# Altium footprint library SamacSys.PcbLib: 17 footprints (part 1 of 2)
Each footprint in its own frame and in the unit in brackets; x right, y up, seen from the top. Pads: shape width x height; smd on the part's side, far side on the other; paste and mask are expansions set on the pad; w line width, h text height; cw(c..) or ccw(c..) is an arc to the next point about the centre after c.
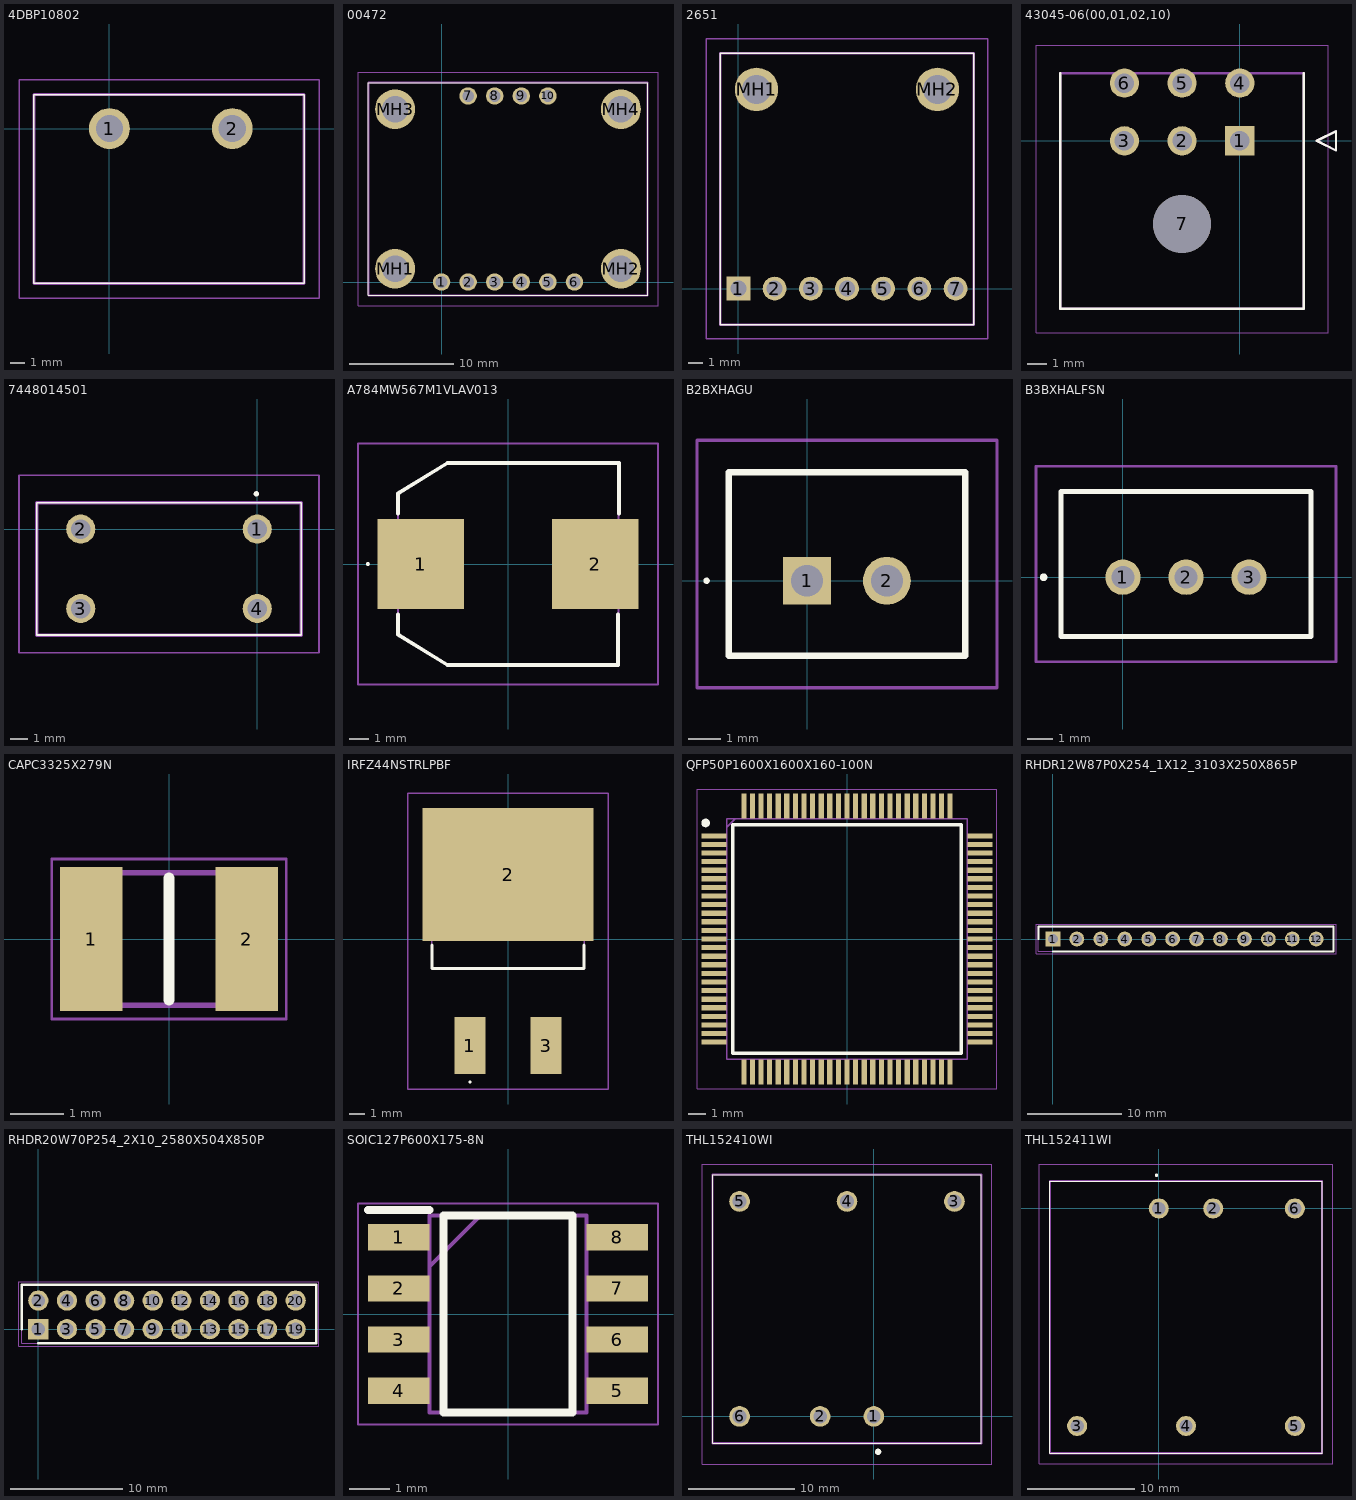
[diagram p0: the footprints below, top view; thin cyan lines are the x and y axes]

## 4DBP10802 [mm]
pads (2):
  round 2.744 hole 1.829: 1(0,0) 2(8.255,0)
Top Overlay:
  lines w0.1: -5.08,-10.414 -5.08,2.286 13.081,2.286 13.081,-10.414 -5.08,-10.414
Mechanical 13:
  lines w0.2: -5.08,-10.414 -5.08,2.286 13.081,2.286 13.081,-10.414 -5.08,-10.414
Mechanical 15:
  lines w0.1: -6.08,-11.414 -6.08,3.286 14.081,3.286 14.081,-11.414 -6.08,-11.414
3D body "4DB-P108-02.stp": height 14.38, standoff -4.16, extent -5.081,-10.41 13.08,2.29

## 00472 [mm]
pads (14):
  round 1.665 hole 1.11: 1(0,0) 2(2.54,0) 3(5.08,0) 4(7.62,0) 5(10.16,0) 6(12.7,0) 7(2.54,17.78) 8(5.08,17.78) 9(7.62,17.78) 10(10.16,17.78)
  round 3.81 hole 2.54: MH1(-4.445,1.27) MH2(17.145,1.27) MH3(-4.445,16.51) MH4(17.145,16.51)
Top Overlay:
  lines w0.1: -6.985,-1.27 -6.985,19.05 19.685,19.05 19.685,-1.27 -6.985,-1.27
Mechanical 13:
  lines w0.2: -6.985,-1.27 -6.985,19.05 19.685,19.05 19.685,-1.27 -6.985,-1.27
Mechanical 15:
  lines w0.1: -7.985,-2.27 -7.985,20.05 20.685,20.05 20.685,-2.27 -7.985,-2.27
3D body "00472.stp": height 2.1, standoff -5, extent -6.985,-1.27 19.685,19.05

## 2651 [mm]
pads (9):
  rect 1.665x1.665 hole 1.11: 1(0,0)
  round 1.665 hole 1.11: 2(2.54,0) 3(5.08,0) 4(7.62,0) 5(10.16,0) 6(12.7,0) 7(15.24,0)
  round 3.048 hole 2.032: MH1(1.27,13.97) MH2(13.97,13.97)
Top Overlay:
  lines w0.1: -1.27,-2.54 16.51,-2.54 16.51,16.51 -1.27,16.51 -1.27,-2.54
Mechanical 13:
  lines w0.2: -1.27,-2.54 16.51,-2.54 16.51,16.51 -1.27,16.51 -1.27,-2.54
Mechanical 15:
  lines w0.1: -2.27,-3.54 17.51,-3.54 17.51,17.51 -2.27,17.51 -2.27,-3.54
3D body "2651.stp": height 3.1, standoff -5, extent -1.27,-2.54 16.51,16.51

## 43045-06(00,01,02,10) [mm]
pads (7):
  rect 1.52x1.52 hole 1.02: 1(0,0)
  round 1.52 hole 1.02: 2(-3,0) 3(-6,0) 4(0,3) 5(-3,3) 6(-6,3)
  round 3 hole 3 unplated: 7(-3,-4.32)
Top Overlay:
  lines w0.127: -9.325,3.52 -9.325,-8.72 3.325,-8.72 3.325,3.52 ; 4,0 5,0.5 5,-0.5 4,0
Mechanical 13:
  lines w0.127: -9.325,-8.72 -9.325,3.52 3.325,3.52 3.325,-8.72 -9.325,-8.72 ; 4,0 5,0.5 5,-0.5 4,0
Mechanical 15:
  lines w0.05: -10.595,-9.99 -10.595,4.979 4.595,4.979 4.595,-9.99 -10.595,-9.99
3D body "43045-0600.stp": height 8.69, standoff -3.26, extent -9.585,-8.895 3.565,3.345

## 7448014501 [mm]
pads (4):
  round 1.65 hole 1.1: 1(0,0) 2(-10,0) 3(-10,-4.5) 4(0,-4.5)
Top Overlay:
  lines w0.1: -12.5,-6 2.5,-6 2.5,1.5 -12.5,1.5 -12.5,-6
  lines w0.2: -0.1,2 ccw(c-0.05,2) 0,2 ; -0.1,2 cw(c-0.05,2) 0,2 ; -0.1,2 ccw(c-0.05,2) 0,2
Mechanical 13:
  lines w0.2: -12.5,-6 2.5,-6 2.5,1.5 -12.5,1.5 -12.5,-6
Mechanical 15:
  lines w0.1: -13.5,-7 3.5,-7 3.5,3.05 -13.5,3.05 -13.5,-7
3D body "7448014501.stp": height 3.5, standoff -3.76, extent -6.28,-5.5 6.28,13.11

## A784MW567M1VLAV013 [mm]
pads (2):
  rect 4.4x4.6 smd: 1(-4.45,0) 2(4.45,0)
Top Overlay:
  lines w0.1: -7.2,0 ccw(c-7.15,0) -7.1,0 ccw(c-7.15,0) -7.2,0
  lines w0.2: -5.6,-2.575 -5.6,-3.605 -3.09,-5.15 5.6,-5.15 5.6,-2.575 ; -5.6,2.575 -5.6,3.605 -3.09,5.15 5.665,5.15 5.665,2.575
Mechanical 13:
  lines w0.1: -5.6,-3.605 -3.09,-5.15 5.6,-5.15 5.665,5.15 -3.09,5.15 -5.6,3.605 -5.6,-3.605
Mechanical 15:
  lines w0.1: -7.65,-6.15 7.65,-6.15 7.65,6.15 -7.65,6.15 -7.65,-6.15
3D body: height 0.25, standoff 0, extent -9.004,-5.293 8.496,5.207

## B2BXHAGU [mm]
pads (2):
  rect 1.5x1.5 hole 1: 1(0,0)
  round 1.5 hole 1: 2(2.5,0)
Top Overlay:
  lines w0.1: -3.2,0 cw(c-3.15,0) -3.1,0 cw(c-3.15,0) -3.2,0
  lines w0.2: -2.45,-2.35 -2.45,3.4 4.95,3.4 4.95,-2.35 -2.45,-2.35
Mechanical 13:
  lines w0.1: -2.45,-2.35 -2.45,3.4 4.95,3.4 4.95,-2.35 -2.45,-2.35
Mechanical 15:
  lines w0.1: -3.45,-3.35 -3.45,4.4 5.95,4.4 5.95,-3.35 -3.45,-3.35
3D body "B2B-XH-A-GU.stp": height 7.55, standoff -2.85, extent -2.45,-2.355 4.95,3.395

## B3BXHALFSN [mm]
pads (3):
  round 1.4 hole 0.9: 1(0,0) 2(2.5,0) 3(5,0)
Top Overlay:
  lines w0.2: -3.2,0 ccw(c-3.15,0) -3.1,0 ; -3.2,0 cw(c-3.15,0) -3.1,0 ; -3.2,0 ccw(c-3.15,0) -3.1,0 ; -2.45,-2.35 -2.45,3.4 7.45,3.4 7.45,-2.35 -2.45,-2.35
Mechanical 13:
  lines w0.1: -2.45,-2.35 -2.45,3.4 7.45,3.4 7.45,-2.35 -2.45,-2.35
Mechanical 15:
  lines w0.1: -3.45,-3.35 -3.45,4.4 8.45,4.4 8.45,-3.35 -3.45,-3.35
3D body "B3B-XH-A_LF__SN_.stp": height 7.09, standoff -3.31, extent -2.449,-2.349 7.451,3.401

## CAPC3325X279N [mm]
pads (2):
  rect 1.18x2.72 smd: 1(-1.47,0) 2(1.47,0)
Top Overlay:
  lines w0.2: 0,-1.15 0,1.15
Mechanical 13:
  lines w0.1: -1.65,-1.25 -1.65,1.25 1.65,1.25 1.65,-1.25 -1.65,-1.25
Mechanical 15:
  lines w0.05: -2.21,-1.51 -2.21,1.51 2.21,1.51 2.21,-1.51 -2.21,-1.51
3D body "12105C225KAT2A.stp": height 2.79, standoff 0, extent -1.65,-1.25 1.65,1.25

## IRFZ44NSTRLPBF [mm]
pads (3):
  rect 2.08x3.81 smd: 1(-2.54,-7.112) 3(2.54,-7.112)
  rect 11.43x8.89 smd: 2(0,4.317)
Top Overlay:
  lines w0.1: -2.54,-9.6 cw(c-2.54,-9.55) -2.54,-9.5 cw(c-2.54,-9.55) -2.54,-9.6
  lines w0.2: -5.08,-0.4 -5.08,-1.968 5.08,-1.968 5.08,-0.4
Mechanical 13:
  lines w0.1: -5.08,-1.968 -5.08,7.113 5.08,7.113 5.08,-1.968 -5.08,-1.968
Mechanical 15:
  lines w0.1: -6.715,-10.018 -6.715,9.763 6.715,9.763 6.715,-10.018 -6.715,-10.018
3D body "IRFZ44NSTRLPBF.stp": height 4.19, standoff 0, extent -4.825,-7.435 4.825,7.175

## QFP50P1600X1600X160-100N [mm]
pads (100):
  rect 1.475x0.3 smd: 1(-7.738,6) 2(-7.738,5.5) 3(-7.738,5) 4(-7.738,4.5) 5(-7.738,4) 6(-7.738,3.5) 7(-7.738,3) 8(-7.738,2.5) 9(-7.738,2) 10(-7.738,1.5) 11(-7.738,1) 12(-7.738,0.5) 13(-7.738,0) 14(-7.738,-0.5) 15(-7.738,-1) 16(-7.738,-1.5) 17(-7.738,-2) 18(-7.738,-2.5) 19(-7.738,-3) 20(-7.738,-3.5) 21(-7.738,-4) 22(-7.738,-4.5) 23(-7.738,-5) 24(-7.738,-5.5) 25(-7.738,-6) 51(7.738,-6) 52(7.738,-5.5) 53(7.738,-5) 54(7.738,-4.5) 55(7.738,-4) 56(7.738,-3.5) 57(7.738,-3) 58(7.738,-2.5) 59(7.738,-2) 60(7.738,-1.5) 61(7.738,-1) 62(7.738,-0.5) 63(7.738,0) 64(7.738,0.5) 65(7.738,1) 66(7.738,1.5) 67(7.738,2) 68(7.738,2.5) 69(7.738,3) 70(7.738,3.5) 71(7.738,4) 72(7.738,4.5) 73(7.738,5) 74(7.738,5.5) 75(7.738,6)
  rect 0.3x1.475 smd: 26(-6,-7.738) 27(-5.5,-7.738) 28(-5,-7.738) 29(-4.5,-7.738) 30(-4,-7.738) 31(-3.5,-7.738) 32(-3,-7.738) 33(-2.5,-7.738) 34(-2,-7.738) 35(-1.5,-7.738) 36(-1,-7.738) 37(-0.5,-7.738) 38(0,-7.738) 39(0.5,-7.738) 40(1,-7.738) 41(1.5,-7.738) 42(2,-7.738) 43(2.5,-7.738) 44(3,-7.738) 45(3.5,-7.738) 46(4,-7.738) 47(4.5,-7.738) 48(5,-7.738) 49(5.5,-7.738) 50(6,-7.738) 76(6,7.738) 77(5.5,7.738) 78(5,7.738) 79(4.5,7.738) 80(4,7.738) 81(3.5,7.738) 82(3,7.738) 83(2.5,7.738) 84(2,7.738) 85(1.5,7.738) 86(1,7.738) 87(0.5,7.738) 88(0,7.738) 89(-0.5,7.738) 90(-1,7.738) 91(-1.5,7.738) 92(-2,7.738) 93(-2.5,7.738) 94(-3,7.738) 95(-3.5,7.738) 96(-4,7.738) 97(-4.5,7.738) 98(-5,7.738) 99(-5.5,7.738) 100(-6,7.738)
Top Overlay:
  circle w0.25: c-8.225,6.75 r0.125
  lines w0.2: -6.65,-6.65 -6.65,6.65 6.65,6.65 6.65,-6.65 -6.65,-6.65
Mechanical 13:
  lines w0.1: -7,6.5 -6.5,7 ; -7,-7 -7,7 7,7 7,-7 -7,-7
Mechanical 15:
  lines w0.05: -8.725,-8.725 -8.725,8.725 8.725,8.725 8.725,-8.725 -8.725,-8.725
3D body "STM32H7R3V8T6.stp": height 1.61, standoff 0.01, extent -8,-8 8,8

## RHDR12W87P0X254_1X12_3103X250X865P [mm]
pads (12):
  rect 1.575x1.575 hole 1.05: 1(0,0)
  round 1.575 hole 1.05: 2(2.54,0) 3(5.08,0) 4(7.62,0) 5(10.16,0) 6(12.7,0) 7(15.24,0) 8(17.78,0) 9(20.32,0) 10(22.86,0) 11(25.4,0) 12(27.94,0)
Top Overlay:
  lines w0.2: -1.545,0 -1.545,1.325 29.785,1.325 29.785,-1.325 0,-1.325
Mechanical 13:
  lines w0.1: -1.545,-1.325 29.785,-1.325 29.785,1.325 -1.545,1.325 -1.545,-1.325
Mechanical 15:
  lines w0.05: -1.795,-1.575 30.035,-1.575 30.035,1.575 -1.795,1.575 -1.795,-1.575
3D body "PRT-14322.stp": height 8.65, standoff -10.8, extent -1.545,-1.25 29.485,1.25

## RHDR20W70P254_2X10_2580X504X850P [mm]
pads (20):
  rect 1.8x1.8 hole 1.2: 1(0,0)
  round 1.8 hole 1.2: 2(0,2.54) 3(2.54,0) 4(2.54,2.54) 5(5.08,0) 6(5.08,2.54) 7(7.62,0) 8(7.62,2.54) 9(10.16,0) 10(10.16,2.54) 11(12.7,0) 12(12.7,2.54) 13(15.24,0) 14(15.24,2.54) 15(17.78,0) 16(17.78,2.54) 17(20.32,0) 18(20.32,2.54) 19(22.86,0) 20(22.86,2.54)
Top Overlay:
  lines w0.2: -1.47,0 -1.47,3.94 24.68,3.94 24.68,-1.25 0,-1.25
Mechanical 13:
  lines w0.1: -1.47,-1.25 24.68,-1.25 24.68,3.94 -1.47,3.94 -1.47,-1.25
Mechanical 15:
  lines w0.05: -1.72,-1.5 24.93,-1.5 24.93,4.19 -1.72,4.19 -1.72,-1.5
3D body "M20-7831046.stp": height 8.46, standoff -3.04, extent -1.47,-1.27 24.33,3.77

## SOIC127P600X175-8N [mm]
pads (8):
  rect 1.525x0.65 smd: 1(-2.712,1.905) 2(-2.712,0.635) 3(-2.712,-0.635) 4(-2.712,-1.905) 5(2.712,-1.905) 6(2.712,-0.635) 7(2.712,0.635) 8(2.712,1.905)
Top Overlay:
  lines w0.2: -3.475,2.58 -1.95,2.58 ; -1.6,-2.45 1.6,-2.45 1.6,2.45 -1.6,2.45 -1.6,-2.45
Mechanical 13:
  lines w0.1: -1.95,1.18 -0.68,2.45 ; -1.95,-2.45 1.95,-2.45 1.95,2.45 -1.95,2.45 -1.95,-2.45
Mechanical 15:
  lines w0.05: -3.725,-2.75 3.725,-2.75 3.725,2.75 -3.725,2.75 -3.725,-2.75
3D body "NE555DR.stp": height 1.75, standoff 0, extent -3,-2.45 3,2.45

## THL152410WI [mm]
pads (6):
  round 1.95 hole 1.3: 1(0,0) 2(-5.08,0) 3(7.62,20.32) 4(-2.54,20.32) 5(-12.7,20.32) 6(-12.7,0)
Top Overlay:
  lines w0.1: -15.24,-2.54 -15.24,22.86 10.16,22.86 10.16,-2.54 -15.24,-2.54
  lines w0.3: 0.4,-3.5 ccw(c0.4,-3.35) 0.4,-3.2 ccw(c0.4,-3.35) 0.4,-3.5
Mechanical 13:
  lines w0.2: -15.24,-2.54 -15.24,22.86 10.16,22.86 10.16,-2.54 -15.24,-2.54
Mechanical 15:
  lines w0.1: -16.24,-4.5 -16.24,23.86 11.16,23.86 11.16,-4.5 -16.24,-4.5
3D body "THL_15-2410WI.stp": height 9.86, standoff -6.3, extent -15.24,-2.42 10.16,22.98

## THL152411WI [mm]
pads (6):
  round 1.875 hole 1.25: 1(0,0) 2(5.08,0) 3(-7.62,-20.3) 4(2.54,-20.3) 5(12.7,-20.3) 6(12.7,0)
Top Overlay:
  lines w0.1: -10.16,-22.85 -10.16,2.55 15.24,2.55 15.24,-22.85 -10.16,-22.85
  lines w0.2: -0.26,3.1 cw(c-0.21,3.1) -0.16,3.1 ; -0.26,3.1 ccw(c-0.21,3.1) -0.16,3.1 ; -0.26,3.1 cw(c-0.21,3.1) -0.16,3.1
Mechanical 13:
  lines w0.2: -10.16,-22.85 -10.16,2.55 15.24,2.55 15.24,-22.85 -10.16,-22.85
Mechanical 15:
  lines w0.1: -11.16,-23.85 -11.16,4.15 16.24,4.15 16.24,-23.85 -11.16,-23.85
3D body "THL_15-2411WI.stp": height 9.96, standoff -6.2, extent -10.16,-22.84 15.24,2.56